# Altium schematic symbol library ISO1042.Schlib: 1 symbol
Pins are listed as number, name and electrical type; pins without a type are passive.

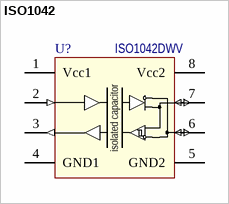
[diagram p0: symbol ISO1042]

## ISO1042
designator U?  Наименование: ISO1042DWV  (hidden comment: ISO1042)
Isolated CAN Transceiver; Назначение: Изолированный CAN приемник; Потребление, Вт: 0,001; ComponentLink1Description: DataSheet; ComponentLink1URL: https://www.ti.com/lit/ds/symlink/iso1042.pdf?ts=1596792765962&ref_url=https%253A%252F%252Fwww.ti.com%252Fproduct%252FISO1042
footprint SOIC-8-WIDE (SOIC, 8-Leads, Body 5,85x7,50mm, Pitch 1,27mm, IPC Medium Density)
footprint SOIC-8-W_in_board
footprint SOIC-8-W_401.14-4
footprint SOIC-8-W_401.14-4 short
pins: 1 Vcc1 (power), 2 TXD (in), 3 RXD (out), 4 GND1 (power), 5 GND2 (power), 6 CANL (io) "CAN LOW", 7 CANH (io) "CAN HIGHT", 8 Vcc2 (power)
text: isolated capacitor